# Altium integrated library Node01.IntLib: 14 symbols
Pins are listed as number, name and electrical type; pins without a type are passive.

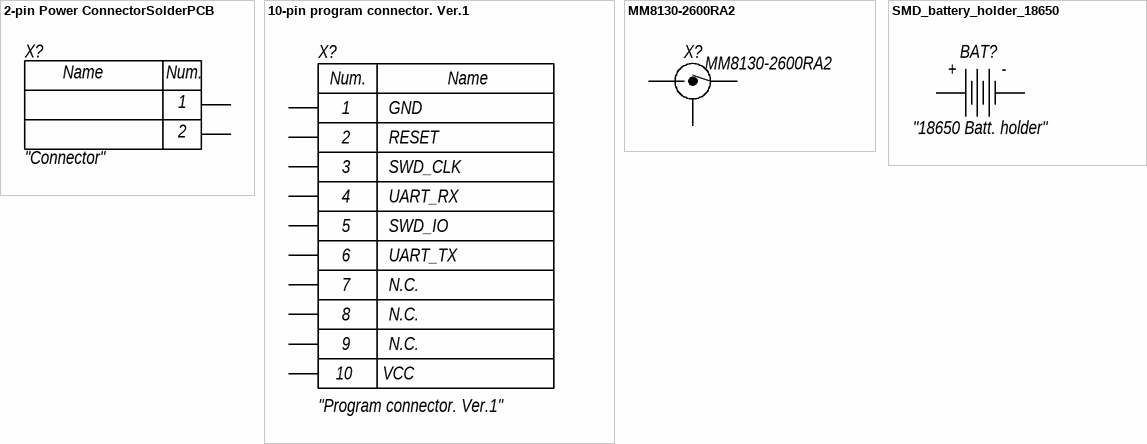
[diagram p0: symbols 2-pin Power ConnectorSolderPCB to SMD_battery_holder_18650]

## 2-pin Power ConnectorSolderPCB
designator X?, comment "Connector"
Power connector. Solder on PCB.; Manufacturer: *; Mfg. Part Number: *; Help URL: *; Power/Voltage: *; Type: *; Value: *; Tolerance: *; Operation Temperature: *; Note: *; Case: *
footprint 2-pin PCB power
pins: 1 (power), 2 (power)
text: Name; Num.

## 10-pin program connector. Ver.1
designator X?, comment "Program connector. Ver.1"
10-pin custom fixed layout program and debug connector.; Manufacturer: *; Mfg. Part Number: *; Help URL: *; Power/Voltage: *; Type: *; Value: *; Tolerance: *; Operation Temperature: *; Note: *; Case: *
footprint 10-pin 2.54mm TH
pins: 1 GND (power), 2 RESET (power), 3 SWD_CLK (power), 4 UART_RX (power), 5 SWD_IO (power), 6 UART_TX (power), 7 N.C. (power), 8 N.C. (power), 9 N.C. (power), 10 VCC (power)
text: Num.; Name

## MM8130-2600RA2
designator X?
SWF Connector Receptacle, Female Socket 50Ohm Surface Mount Solder; Manufacturer: Murata Electronics; Power/Voltage: 30V; Operation Temperature: -40...+85; Note: Internal switch; Freq Max: 6 GHz; Mfg. Part Number: MM8130-2600RA2; Help URL: https://www.digikey.com/en/products/detail/murata-electronics/MM8130-2600RA2/1775922; Type: battery holder; Value: *; Tolerance: *; Case: *; Impedance: 50 Ohm; Style: SWF; Type: Recepacle, Female socket
footprint COAXIAL-SWF
pins: 1 IN (power), 2 Shield (power), 3 OUT (power)

## SMD_battery_holder_18650
designator BAT?, comment "18650 Batt. holder"
Battery holder 18650 SMD.; Manufacturer: Keystone Electronics; Mfg. Part Number: 1042; Operation Temperature: -50...+145; Help URL: https://www.digikey.com/en/products/detail/keystone-electronics/1042/2745668; Power/Voltage: *; Type: battery holder; Value: *; Tolerance: *; Note: *; Case: 18650
footprint 18650_smd_keystone_1042
pins: 1 (power), 2 (power)
text: +; -


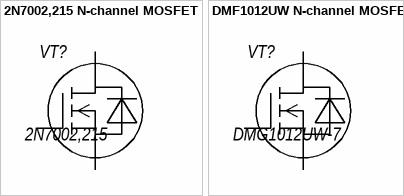
[diagram p1: symbols 2N7002,215 N-channel MOSFET to DMF1012UW N-channel MOSFET]

## 2N7002,215 N-channel MOSFET
designator VT?, comment 2N7002,215
MOSFET 2N7002,215 , N-channel, 60V, 300mA; Manufacturer: Nexperia USA Inc.; Power/Voltage: 60V, 830mW; Type: MOSFET N-channel; Operation Temperature: -65...+150; Mfg. Part Number: 2N7002,215; Help URL: https://www.digikey.com/en/products/detail/nexperia-usa-inc/2N7002-215/762973; Value: *; Tolerance: *; Note: *; Case: SOT23
footprint SOT95P230X110-3N (SOT23, 3-Leads, Body 2,90x2,30mm, Pitch 0,95mm, IPC Medium Density)
pins: 1 G (power), 2 S (power), 3 D (power)

## DMF1012UW N-channel MOSFET
designator VT?, comment DMG1012UW-7
MOSFET DMG1012UW , N-channel, 20V, 1A; Manufacturer: Diodes Incorporated; Power/Voltage: 20V, 290mW; Type: MOSFET N-channel; Operation Temperature: -55...+150; Mfg. Part Number: DMG1012UW-7; Help URL: https://www.digikey.com/en/products/detail/diodes-incorporated/DMG1012UW-7/2183239?s=N4IgTCBcDaICYFsDmBGADCsBXA7iAugL5A; Value: *; Tolerance: *; Note: *; Case: SOT323
footprint SOT65P210X110-3N (SOT23, 3-Leads, Body 2,00x2,10mm, Pitch 0,65mm, IPC Medium Density)
pins: 1 G (power), 2 S (power), 3 D (power)


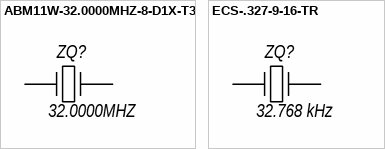
[diagram p2: symbols ABM11W-32.0000MHZ-8-D1X-T3 to ECS-.327-9-16-TR]

## ABM11W-32.0000MHZ-8-D1X-T3
designator ZQ?, comment 32.0000MHZ
CRYSTAL 32.0000MHZ 8PF SMD, ±10ppm Crystal 8pF 4-SMD, No Lead; Manufacturer: Abracon LLC; Mfg. Part Number: ABM11W-32.0000MHZ-8-D1X-T3; Operation Temperature: -40...+85; Help URL: https://www.digikey.com/en/products/detail/abracon-llc/ABM11W-32-0000MHZ-8-D1X-T3/7172671; Power/Voltage: *; Type: crystal oscillator; Value: 32.0000MHZ; Tolerance: 10ppm; Note: *; Case: 4-SMD, No Lead
footprint ABM11W-32.0000MHZ-8-D1X-T3
pins: 1 (power), 2 (power) hidden to GND, 3 (power), 4 (power) hidden to GND

## ECS-.327-9-16-TR
designator ZQ?, comment 32.768 kHz
CRYSTAL 32.7680KHZ 9PF SMD ±20ppm Crystal 9pF 2-SMD, No Lead; Manufacturer: ECS Inc.; Mfg. Part Number: ECS-.327-9-16-TR; Operation Temperature: -40...+85; Help URL: https://www.digikey.com/en/products/detail/ecs-inc/ECS-327-9-16-TR/5875558; Power/Voltage: *; Type: crystal oscillator, tunning fork; Value: 32.768 kHz; Tolerance: 20ppm; Note: *; Case: 2-SMD, No Lead
footprint ECX-16
pins: 1 (power), 2 (power)


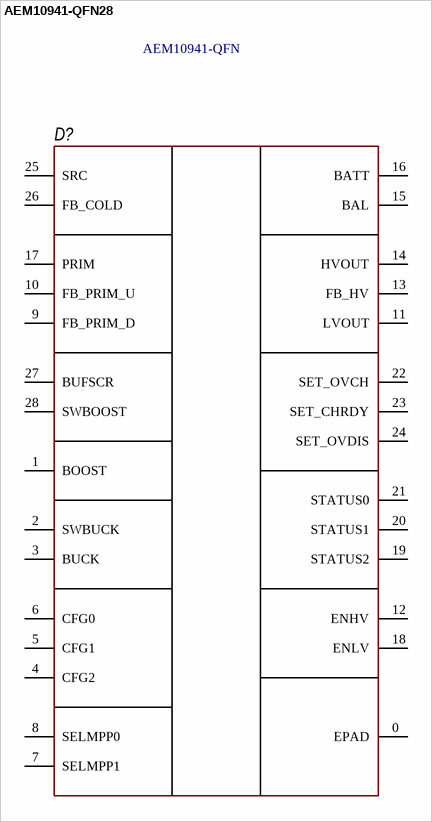
[diagram p3: symbol AEM10941-QFN28]

## AEM10941-QFN28
designator D?, comment AEM10941-QFN
Intergated energy management circuit that extracts DC power from up to 7-cell solar panels. With MPPT controller.; Manufacturer: e-peas; Type: PV energy harvester; Power/Voltage: 550mW; Operation Temperature: -40...+125 °C; Help URL: https://eu.mouser.com/ProductDetail/e-peas/AEM10941-QFN?qs=W%2FMpXkg%252BdQ7CeqB2lBPbRQ%3D%3D; Value: *; Tolerance: *; Note: *; Mfr. Part Number: AEM10941-QFN
footprint QFN50P500X500X85_HS-29N (QFN, 28-Leads, Body 5,00x5,00mm, Pitch 0,50mm, Thermal Pad 3,15x3,15mm, IPC Medium Density)
pins: 0 EPAD (power), 1 BOOST (power), 2 SWBUCK (power), 3 BUCK (power), 4 CFG2 (power), 5 CFG1 (power), 6 CFG0 (power), 7 SELMPP1 (power), 8 SELMPP0 (power), 9 FB_PRIM_D (power), 10 FB_PRIM_U (power), 11 LVOUT (power), 12 ENHV (power), 13 FB_HV (power), 14 HVOUT (power), 15 BAL (power), 16 BATT (power), 17 PRIM (power), 18 ENLV (power), 19 STATUS2 (power), 20 STATUS1 (power), 21 STATUS0 (power), 22 SET_OVCH (power), 23 SET_CHRDY (power), 24 SET_OVDIS (power), 25 SRC (power), 26 FB_COLD (power), 27 BUFSCR (power), 28 SWBOOST (power)


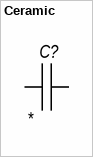
[diagram p4: symbol Ceramic]

## Ceramic
designator C?
Ceramic capacitor; Manufacturer: *; Mfr. Part Number: *; Help URL: *; Type: capacitor; Power/Voltage: *; Value: *; Tolerance: *; Operation Temperature: *; Note: *; Case: 0603
footprint CAPC1608X09N (Chip Capacitor, 2-Leads, Body 1,60x0,80mm, IPC Medium Density)
pins: 1 (power), 2 (power)


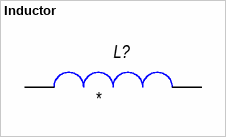
[diagram p5: symbol Inductor]

## Inductor
designator L?
Inductor; Manufacturer: *; Mfg. Part Number: *; Help URL: *; Power/Voltage: *; Type: *; Value: *; Tolerance: *; Operation Temperature: *; Note: *; Case: *
footprint INDC1608X08N (Chip Inductor, 2-Leads, Body 1,60x0,80mm, IPC Medium Density)
footprint INDP3939X11N (Precision Wire Wound Inductor, 2-Leads, Body 3,90x3,90mm, IPC Medium Density, suitable for LPS4012-103MRB)
pins: 1 (power), 2 (power)


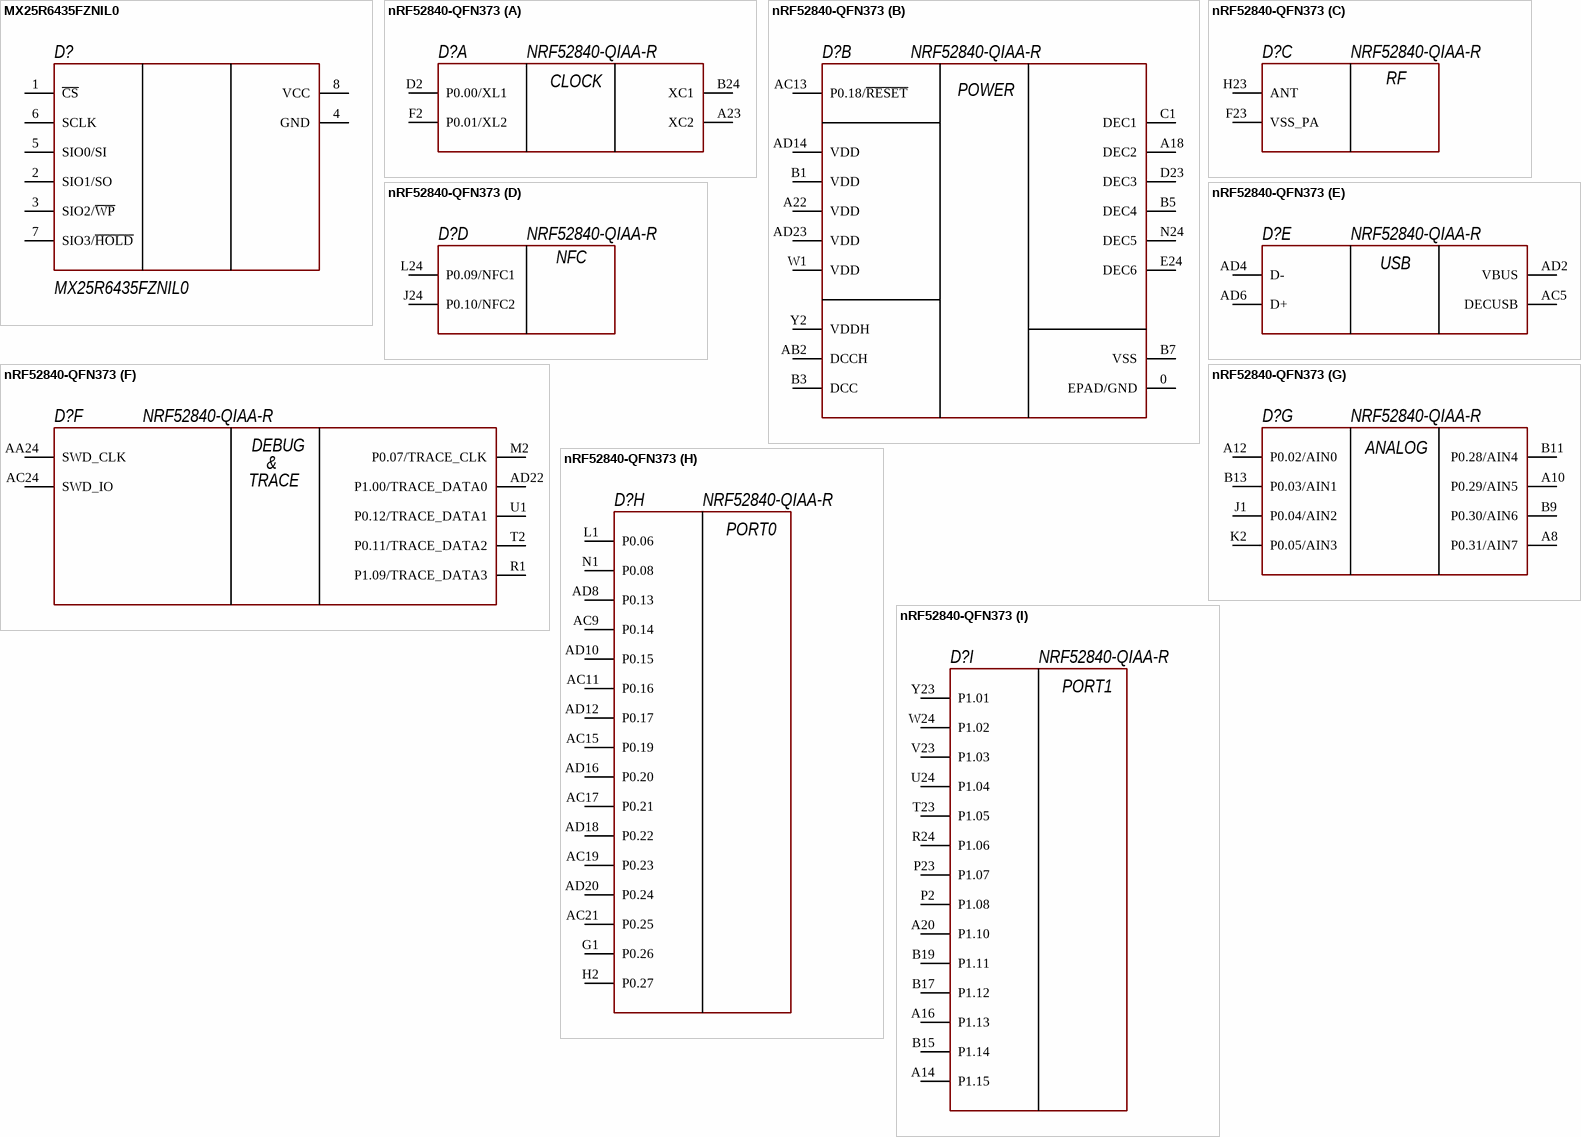
[diagram p6: symbols MX25R6435FZNIL0 to nRF52840-QFN373]

## MX25R6435FZNIL0
designator D?
FLASH - NOR Memory IC 64Mb (8M x 8) SPI - Quad I/O 8-WSON (6x5); Manufacturer: Macronix; Power/Voltage: 1.65V ~ 3.6V; Operation Temperature: -40...+85; Help URL: https://www.digikey.com/en/products/detail/macronix/MX25R6435FZNIL0/6558605?s=N4IgTCBcDaILIA0wFYBKA2ALAZmQMQC0A5ASQBkAGEAXQF8g; Type: FLASH - NOR; Value: *; Tolerance: *; Note: *; Case: 8-WSON (6x5); PartNumber: MX25R6435FZNIL0
footprint SON127P600X80_HS-9N
pins: 0 EPAD (power) hidden to GND, 1 ~{CS} (power), 2 SIO1/SO (power), 3 SIO2/~{WP} (power), 4 GND (power), 5 SIO0/SI (power), 6 SCLK (power), 7 SIO3/~{HOLD} (power), 8 VCC (power)

## nRF52840-QFN373
designator D?, comment NRF52840-QIAA-R
IC RF TxRx + MCU 802.15.4, Bluetooth Bluetooth v5.0 2.4GHz 73-VFQFN Dual Rows, Exposed Pad; Manufacturer: Nordic Semiconductor ASA; Power/Voltage: 1.7V ~ 5.5V; Operation Temperature: -40...+85; Help URL: https://www.digikey.com/en/products/detail/nexperia-usa-inc/2N7002-215/762973; Type: IC RF TXRX+MCU 802.15.4; Value: *; Tolerance: *; Note: *; Case: 73-aQFN (7x7); PartNumber: NRF52840-QIAA-R
footprint AQFN50P700X700X85_HS-74N
part A pins: A23 XC2 (power), B24 XC1 (power), D2 P0.00/XL1 (power), F2 P0.01/XL2 (power)
part B pins: 0 EPAD/GND (power), A18 DEC2 (power), A22 VDD (power), AB2 DCCH (power), AC13 P0.18/~{RESET} (power), AD14 VDD (power), AD23 VDD (power), B1 VDD (power), B3 DCC (power), B5 DEC4 (power), B7 VSS (power), C1 DEC1 (power), D23 DEC3 (power), E24 DEC6 (power), N24 DEC5 (power), W1 VDD (power), Y2 VDDH (power)
part C pins: F23 VSS_PA (power), H23 ANT (power)
part D pins: J24 P0.10/NFC2 (power), L24 P0.09/NFC1 (power)
part E pins: AC5 DECUSB (power), AD2 VBUS (power), AD4 D- (power), AD6 D+ (power)
part F pins: AA24 SWD_CLK (power), AC24 SWD_IO (power), AD22 P1.00/TRACE_DATA0 (power), M2 P0.07/TRACE_CLK (power), R1 P1.09/TRACE_DATA3 (power), T2 P0.11/TRACE_DATA2 (power), U1 P0.12/TRACE_DATA1 (power)
part G pins: A8 P0.31/AIN7 (power), A10 P0.29/AIN5 (power), A12 P0.02/AIN0 (power), B9 P0.30/AIN6 (power), B11 P0.28/AIN4 (power), B13 P0.03/AIN1 (power), J1 P0.04/AIN2 (power), K2 P0.05/AIN3 (power)
part H pins: AC9 P0.14 (power), AC11 P0.16 (power), AC15 P0.19 (power), AC17 P0.21 (power), AC19 P0.23 (power), AC21 P0.25 (power), AD8 P0.13 (power), AD10 P0.15 (power), AD12 P0.17 (power), AD16 P0.20 (power), AD18 P0.22 (power), AD20 P0.24 (power), G1 P0.26 (power), H2 P0.27 (power), L1 P0.06 (power), N1 P0.08 (power)
part I pins: A14 P1.15 (power), A16 P1.13 (power), A20 P1.10 (power), B15 P1.14 (power), B17 P1.12 (power), B19 P1.11 (power), P2 P1.08 (power), P23 P1.07 (power), R24 P1.06 (power), T23 P1.05 (power), U24 P1.04 (power), V23 P1.03 (power), W24 P1.02 (power), Y23 P1.01 (power)
part A text: CLOCK
part B text: POWER
part C text: RF
part D text: NFC
part E text: USB
part F text: DEBUG; &; TRACE
part G text: ANALOG
part H text: PORT0
part I text: PORT1


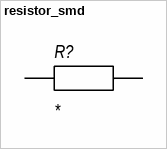
[diagram p7: symbol resistor_smd]

## resistor_smd
designator R?
SMD resistor; Manufacturer: *; Mfr. Part Number: *; Help URL: *; Type: resistor; Power/Voltage: *; Value: *; Tolerance: *; Operation Temperature: *; Note: *; Case: (
footprint RESC1608X05N (Chip Resistor, 2-Leads, Body 1,60x0,80mm, IPC Medium Density)
pins: 1 (power), 2 (power)